# EAGLE library part ADS7950RGE (library ic-TI)
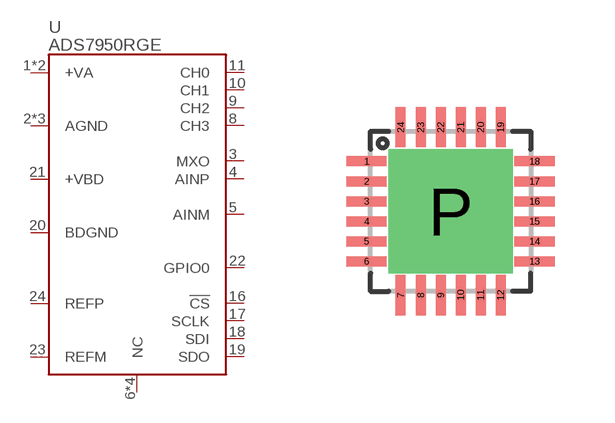
[diagram p38: symbol with the pads of QFN24-0.5; footprint QFN24-0.5]

Designator prefix U

## ADS7950RGE  [QFN24-0.5]
1  +VA
2  AGND
3  MXO
4  AINP
5  AINM
6  NC
7  NC
8  CH3
9  CH2
10  CH1
11  CH0
12  NC
13  NC
14  +VA
15  AGND
16  !CS
17  SCLK
18  SDI
19  SDO
20  BDGND
21  +VBD
22  GPIO0
23  REFM
24  REFP
P  AGND

## Footprint QFN24-0.5 (pad centres in mm)
smd 1 x 0.25: 1 -2.1,1.25; 2 -2.1,0.75; 3 -2.1,0.25; 4 -2.1,-0.25; 5 -2.1,-0.75; 6 -2.1,-1.25; 13 2.1,-1.25; 14 2.1,-0.75; 15 2.1,-0.25; 16 2.1,0.25; 17 2.1,0.75; 18 2.1,1.25
smd 0.25 x 1: 7 -1.25,-2.1; 8 -0.75,-2.1; 9 -0.25,-2.1; 10 0.25,-2.1; 11 0.75,-2.1; 12 1.25,-2.1; 19 1.25,2.1; 20 0.75,2.1; 21 0.25,2.1; 22 -0.25,2.1; 23 -0.75,2.1; 24 -1.25,2.1
drill 2.1 pad 2.7 square: P 0,0